# Altium footprint library PASSIVE_THD.PCBLIB: 248 footprints (part 2 of 16)
Each footprint in its own frame and in the unit in brackets; x right, y up, seen from the top. Pads: shape width x height; smd on the part's side, far side on the other; paste and mask are expansions set on the pad; w line width, h text height; cw(c..) or ccw(c..) is an arc to the next point about the centre after c.
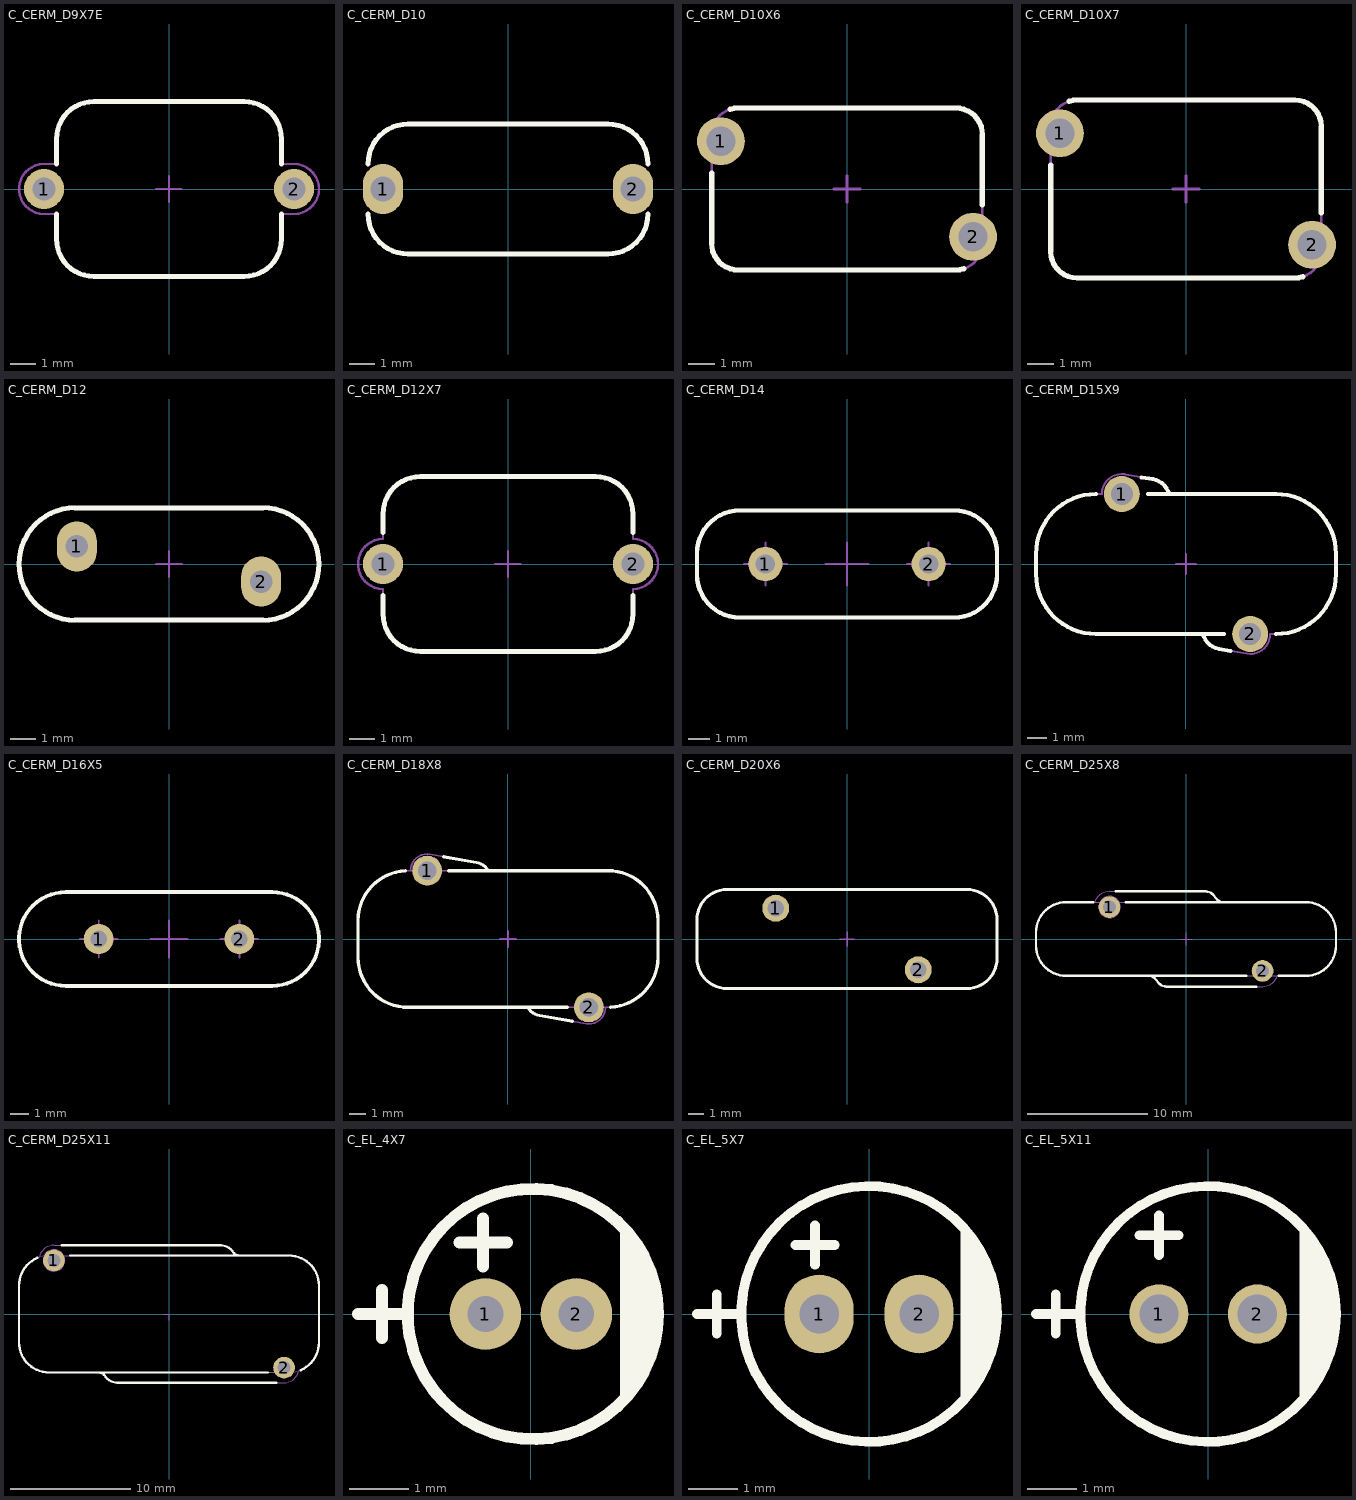
[diagram p1: the footprints below, top view; thin cyan lines are the x and y axes]

## C_CERM_D9X7E [mm] "CAP, CER, High Voltage MultiLayer"
height 12
pads (2):
  round 1.6 hole 0.9: 1(-5,0) 2(5,0)
TopOverlay:
  lines w0.2: -4.5,-1 -4.5,-2 ccw(c-3,-2) -3,-3.5 3,-3.5 ccw(c3,-2) 4.5,-2 4.5,-1 ; -4.5,1 -4.5,2 cw(c-3,2) -3,3.5 3,3.5 cw(c3,2) 4.5,2 4.5,1
Mechanical8:
  lines w0.1: -5.5,0 -5,0 ; -5,-0.5 -5,0 ; -5,0.5 -5,0 ; -4.5,0 -5,0 ; -0.5,0 0,0 ; 0,-0.5 0,0 ; 0,0.5 0,0 ; 0.5,0 0,0 ; 4.5,0 5,0 ; 5,-0.5 5,0 ; 5,0.5 5,0 ; 5.5,0 5,0
Mechanical14:
  lines w0.1: -5,-1 cw(c-5,0) -5,1 -4.5,1 -4.5,2 cw(c-3,2) -3,3.5 3,3.5 cw(c3,2) 4.5,2 4.5,1 5,1 cw(c5,0) 5,-1 4.5,-1 4.5,-2 cw(c3,-2) 3,-3.5 -3,-3.5 cw(c-3,-2) -4.5,-2 -4.5,-1 -5,-1
3D body "CAPRB_MURATA_DECB33J101KC4B.stp": height 12, standoff -3.6, extent -6,-3.5 6,3.5

## C_CERM_D10 [mm] "CAP, CER MULTILAYER, 12X4mm, pitch: 7.5mm"
height 5.5
pads (2):
  oval 1.6x2 hole 1: 1(-5,0) 2(5,0)
TopOverlay:
  lines w0.2: -5.6,-1 ccw(c-4,-1) -4,-2.6 4,-2.6 ccw(c4,-1) 5.6,-1 ; -5.6,1 cw(c-4,1) -4,2.6 4,2.6 cw(c4,1) 5.6,1
3D body "User Library-capacitor 10mm pitch.step": height 12.5, standoff -4, extent -5.5,-2.5 5.5,2.5

## C_CERM_D10X6 [mm] "CAP, CER, High Voltage MultiLayer"
height 10.2
pads (2):
  round 1.8 hole 1.1: 1(-4.75,1.8) 2(4.75,-1.8)
TopOverlay:
  lines w0.2: -5.1,0.6 -5.1,-2.05 ccw(c-4.1,-2.05) -4.1,-3.05 4.1,-3.05 ccw(c4.1,-2.05) 4.406,-3.002 ; -4.406,3.002 cw(c-4.1,2.05) -4.1,3.05 4.1,3.05 cw(c4.1,2.05) 5.1,2.05 5.1,-0.6
Mechanical8:
  lines w0.1: -5.25,1.8 -4.75,1.8 ; -4.75,1.3 -4.75,1.8 ; -4.75,2.3 -4.75,1.8 ; -4.25,1.8 -4.75,1.8 ; -0.5,0 0,0 ; 0,-0.5 0,0 ; 0,0.5 0,0 ; 0.5,0 0,0 ; 4.25,-1.8 4.75,-1.8 ; 4.75,-2.3 4.75,-1.8 ; 4.75,-1.3 4.75,-1.8 ; 5.25,-1.8 4.75,-1.8
Mechanical14:
  lines w0.1: -5.1,-2.05 ccw(c-4.1,-2.05) -4.1,-3.05 4.1,-3.05 ccw(c4.1,-2.05) 5.1,-2.05 5.1,2.05 ccw(c4.1,2.05) 4.1,3.05 -4.1,3.05 ccw(c-4.1,2.05) -5.1,2.05 -5.1,-2.05
3D body "CAPRB_VISHAY_564R60GAT56.stp": height 10.2, standoff -3.6, extent -5.159,-3.107 5.159,3.106

## C_CERM_D10X7 [mm] "CAP, CER, High Voltage MultiLayer"
height 10.2
pads (2):
  round 1.8 hole 1.1: 1(-4.75,2.1) 2(4.75,-2.1)
TopOverlay:
  lines w0.2: -5.1,0.9 -5.1,-2.35 ccw(c-4.1,-2.35) -4.1,-3.35 4.1,-3.35 ccw(c4.1,-2.35) 4.406,-3.302 ; -4.406,3.302 cw(c-4.1,2.35) -4.1,3.35 4.1,3.35 cw(c4.1,2.35) 5.1,2.35 5.1,-0.9
Mechanical8:
  lines w0.1: -5.25,2.1 -4.75,2.1 ; -4.75,1.6 -4.75,2.1 ; -4.75,2.6 -4.75,2.1 ; -4.25,2.1 -4.75,2.1 ; -0.5,0 0,0 ; 0,-0.5 0,0 ; 0,0.5 0,0 ; 0.5,0 0,0 ; 4.25,-2.1 4.75,-2.1 ; 4.75,-2.6 4.75,-2.1 ; 4.75,-1.6 4.75,-2.1 ; 5.25,-2.1 4.75,-2.1
Mechanical14:
  lines w0.1: -5.1,-2.35 ccw(c-4.1,-2.35) -4.1,-3.35 4.1,-3.35 ccw(c4.1,-2.35) 5.1,-2.35 5.1,2.35 ccw(c4.1,2.35) 4.1,3.35 -4.1,3.35 ccw(c-4.1,2.35) -5.1,2.35 -5.1,-2.35
3D body "CAPRB_VISHAY_564R60GAT22.stp": height 10.2, standoff -3.6, extent -5.159,-3.406 5.159,3.406

## C_CERM_D12 [mm] "CAP, CER, High Voltage MultiLayer"
height 15
pads (2):
  oval 1.6x2 hole 0.9: 1(-3.684,0.7) 2(3.684,-0.7)
TopOverlay:
  lines w0.2: -6,0 cw(c-3.75,0) -3.75,2.25 3.75,2.25 cw(c3.75,0) 6,0 cw(c3.75,0) 3.75,-2.25 -3.75,-2.25 cw(c-3.75,0) -6,0
Mechanical8:
  lines w0.1: -4.184,0.7 -3.684,0.7 ; -3.684,0.2 -3.684,0.7 ; -3.684,1.2 -3.684,0.7 ; -3.184,0.7 -3.684,0.7 ; -0.5,0 0,0 ; 0,-0.5 0,0 ; 0,0.5 0,0 ; 0.5,0 0,0 ; 3.184,-0.7 3.684,-0.7 ; 3.684,-1.2 3.684,-0.7 ; 3.684,-0.2 3.684,-0.7 ; 4.184,-0.7 3.684,-0.7
Mechanical14:
  lines w0.1: -6,0 cw(c-3.75,0) -3.75,2.25 3.75,2.25 cw(c3.75,0) 6,0 cw(c3.75,0) 3.75,-2.25 -3.75,-2.25 cw(c-3.75,0) -6,0
3D body "CAPRB_VISHAY_WYO472.stp": height 14.98, standoff -3.8, extent -5.984,-2.25 5.943,2.25

## C_CERM_D12X7 [mm] "CAP, CER, High Voltage MultiLayer"
height 12
pads (2):
  round 1.6 hole 0.9: 1(-5,0) 2(5,0)
TopOverlay:
  lines w0.2: -5,-1.27 -5,-2 ccw(c-3.5,-2) -3.5,-3.5 3.5,-3.5 ccw(c3.5,-2) 5,-2 5,-1.27 ; -5,1.27 -5,2 cw(c-3.5,2) -3.5,3.5 3.5,3.5 cw(c3.5,2) 5,2 5,1.27
Mechanical8:
  lines w0.1: -5.5,0 -5,0 ; -5,-0.5 -5,0 ; -5,0.5 -5,0 ; -4.5,0 -5,0 ; -0.5,0 0,0 ; 0,-0.5 0,0 ; 0,0.5 0,0 ; 0.5,0 0,0 ; 4.5,0 5,0 ; 5,-0.5 5,0 ; 5,0.5 5,0 ; 5.5,0 5,0
Mechanical14:
  lines w0.1: -5,-2 ccw(c-3.5,-2) -3.5,-3.5 3.5,-3.5 ccw(c3.5,-2) 5,-2 5,-1 ccw(c5,0) 5,1 5,2 ccw(c3.5,2) 3.5,3.5 -3.5,3.5 ccw(c-3.5,2) -5,2 -5,1 ccw(c-5,0) -5,-1 -5,-2
3D body "CAPRB_MURATA_DECB33J471KC4B.stp": height 13, standoff -3.6, extent -6,-3.5 6,3.5

## C_CERM_D14 [mm] "CAP, CER, High Voltage MultiLayer"
height 17
pads (2):
  round 1.6 hole 0.9: 1(-3.81,0) 2(3.81,0)
TopOverlay:
  lines w0.2: -7,-0.5 ccw(c-5,-0.5) -5,-2.5 5,-2.5 ccw(c5,-0.5) 7,-0.5 7,0.5 ccw(c5,0.5) 5,2.5 -5,2.5 ccw(c-5,0.5) -7,0.5 -7,-0.5
Mechanical8:
  lines w0.1: -4.81,0 -3.81,0 ; -3.81,-1 -3.81,0 ; -3.81,1 -3.81,0 ; -2.81,0 -3.81,0 ; -1,0 0,0 ; 0,-1 0,0 ; 0,1 0,0 ; 1,0 0,0 ; 2.81,0 3.81,0 ; 3.81,-1 3.81,0 ; 3.81,1 3.81,0 ; 4.81,0 3.81,0
Mechanical14:
  lines w0.1: -7,-0.5 ccw(c-5,-0.5) -5,-2.5 5,-2.5 ccw(c5,-0.5) 7,-0.5 7,0.5 ccw(c5,0.5) 5,2.5 -5,2.5 ccw(c-5,0.5) -7,0.5 -7,-0.5
3D body "CAPRB_MURATA_DE2F3KY103MA3BM02.stp": height 17.01, standoff -3.6, extent -7.001,-2.6 7.014,2.6

## C_CERM_D15X9 [mm] "CAP, CER, High Voltage MultiLayer"
height 20
pads (2):
  round 1.8 hole 1.1: 1(-3.211,3.5) 2(3.211,-3.5)
TopOverlay:
  lines w0.2: -4.511,3.5 ccw(c-4.5,0.5) -7.5,0.5 -7.5,-0.5 ccw(c-4.5,-0.5) -4.5,-3.5 1.911,-3.5 ; -2.214,4.334 -1.645,4.239 ; -1.911,3.5 4.5,3.5 cw(c4.5,0.5) 7.5,0.5 7.5,-0.5 cw(c4.5,-0.5) 4.511,-3.5 ; -1.664,4.242 cw(c-1.819,3.254) -0.849,3.5 ; 0.849,-3.5 ccw(c1.819,-3.254) 1.645,-4.239 2.22,-4.341
Mechanical8:
  lines w0.1: -3.711,3.5 -3.211,3.5 ; -3.211,3 -3.211,3.5 ; -3.211,4 -3.211,3.5 ; -2.711,3.5 -3.211,3.5 ; -0.5,0 0,0 ; 0,-0.5 0,0 ; 0,0.5 0,0 ; 0.5,0 0,0 ; 2.711,-3.5 3.211,-3.5 ; 3.211,-4 3.211,-3.5 ; 3.211,-3 3.211,-3.5 ; 3.711,-3.5 3.211,-3.5
Mechanical14:
  lines w0.1: -3.211,4.5 -1.645,4.239 ; -2.887,4.446 ccw(c-3.211,3.5) -4.211,3.5 -4.5,3.5 ccw(c-4.5,0.5) -7.5,0.5 -7.5,-0.5 ccw(c-4.5,-0.5) -4.5,-3.5 0.849,-3.5 ccw(c1.819,-3.254) 1.645,-4.239 3.038,-4.485 ccw(c3.211,-3.5) 4.211,-3.5 4.5,-3.5 ccw(c4.5,-0.5) 7.5,-0.5 7.5,0.5 ccw(c4.5,0.5) 4.5,3.5 -0.849,3.5 ccw(c-1.819,3.254) -1.664,4.242
3D body "CAPRB_MURATA_DHRE4AD222Z4QB.stp": height 19, standoff -3.6, extent -7.5,-4.5 7.5,4.5

## C_CERM_D16X5 [mm] "CAP, CER, High Voltage MultiLayer"
height 19
pads (2):
  round 1.6 hole 0.9: 1(-3.75,0) 2(3.75,0)
TopOverlay:
  lines w0.2: -5.5,-2.5 cw(c-5.5,0) -5.5,2.5 5.5,2.5 cw(c5.5,0) 5.5,-2.5 -5.5,-2.5
Mechanical8:
  lines w0.1: -4.75,0 -3.75,0 ; -3.75,-1 -3.75,0 ; -3.75,1 -3.75,0 ; -2.75,0 -3.75,0 ; -1,0 0,0 ; 0,-1 0,0 ; 0,1 0,0 ; 1,0 0,0 ; 2.75,0 3.75,0 ; 3.75,-1 3.75,0 ; 3.75,1 3.75,0 ; 4.75,0 3.75,0
Mechanical14:
  lines w0.1: -5.5,-2.5 cw(c-5.5,0) -5.5,2.5 5.5,2.5 cw(c5.5,0) 5.5,-2.5 -5.5,-2.5
3D body "CAPRB_MURATA_DEBE33D103ZA3B.stp": height 18.97, standoff -3.8, extent -7.924,-2.5 7.988,2.5

## C_CERM_D18X8 [mm] "CAP, CER, High Voltage MultiLayer"
height 22
pads (2):
  round 1.8 hole 1.1: 1(-4.849,4.1) 2(4.849,-4.1)
TopOverlay:
  lines w0.2: -6.149,4.096 ccw(c-6,1.1) -9,1.1 -9,-1.1 ccw(c-6,-1.1) -6,-4.1 3.549,-4.1 ; -3.857,4.941 -1.89,4.594 cw(c-2.063,3.609) -1.192,4.1 ; -3.549,4.1 6,4.1 cw(c6,1.1) 9,1.1 9,-1.1 cw(c6,-1.1) 6.149,-4.096 ; 1.192,-4.1 ccw(c2.064,-3.609) 1.89,-4.594 3.857,-4.941
Mechanical8:
  lines w0.1: -5.349,4.1 -4.849,4.1 ; -4.849,3.6 -4.849,4.1 ; -4.849,4.6 -4.849,4.1 ; -4.349,4.1 -4.849,4.1 ; -0.5,0 0,0 ; 0,-0.5 0,0 ; 0,0.5 0,0 ; 0.5,0 0,0 ; 4.349,-4.1 4.849,-4.1 ; 4.849,-4.6 4.849,-4.1 ; 4.849,-3.6 4.849,-4.1 ; 5.349,-4.1 4.849,-4.1
Mechanical14:
  lines w0.1: -5.849,4.1 cw(c-4.849,4.1) -4.675,5.085 -1.89,4.594 cw(c-2.064,3.609) -1.192,4.1 ; 1.192,-4.1 ccw(c2.064,-3.609) 1.89,-4.594 4.675,-5.085 ccw(c4.849,-4.1) 5.849,-4.1 ; -9,-1.1 ccw(c-6,-1.1) -6,-4.1 6,-4.1 ccw(c6,-1.1) 9,-1.1 9,1.1 ccw(c6,1.1) 6,4.1 -6,4.1 ccw(c-6,1.1) -9,1.1 -9,-1.1
3D body "CAPRB_MURATA_DHR4E4C102K2FB.stp": height 22, standoff -3.6, extent -9,-5.1 9,5.1

## C_CERM_D20X6 [mm] "CAP, CER, High Voltage MultiLayer"
height 20
pads (2):
  round 1.8 hole 1.1: 1(-4.75,2.05) 2(4.75,-2.05)
TopOverlay:
  lines w0.2: -10,-1.3 ccw(c-8,-1.3) -8,-3.3 8,-3.3 ccw(c8,-1.3) 10,-1.3 10,1.3 ccw(c8,1.3) 8,3.3 -8,3.3 ccw(c-8,1.3) -10,1.3 -10,-1.3
Mechanical8:
  lines w0.1: -5.25,2.05 -4.75,2.05 ; -4.75,1.55 -4.75,2.05 ; -4.75,2.55 -4.75,2.05 ; -4.25,2.05 -4.75,2.05 ; -0.5,0 0,0 ; 0,-0.5 0,0 ; 0,0.5 0,0 ; 0.5,0 0,0 ; 4.25,-2.05 4.75,-2.05 ; 4.75,-2.55 4.75,-2.05 ; 4.75,-1.55 4.75,-2.05 ; 5.25,-2.05 4.75,-2.05
Mechanical14:
  lines w0.1: -10,-1.3 ccw(c-8,-1.3) -8,-3.3 8,-3.3 ccw(c8,-1.3) 10,-1.3 10,1.3 ccw(c8,1.3) 8,3.3 -8,3.3 ccw(c-8,1.3) -10,1.3 -10,-1.3
3D body "CAPRB_VISHAY_564R60GAD47.stp": height 20, standoff -3.6, extent -9.999,-3.296 9.999,3.296

## C_CERM_D25X8 [mm] "CAP, CER, High Voltage MultiLayer"
height 29.4
pads (2):
  round 1.8 hole 1.1: 1(-6.35,2.65) 2(6.35,-2.65)
TopOverlay:
  lines w0.2: -7.69,3.055 -9.95,3.055 ccw(c-9.95,0.555) -12.45,0.555 -12.45,-0.555 ccw(c-9.95,-0.555) -9.95,-3.055 5.01,-3.055 ; -5.83,3.95 1.638,3.95 cw(c1.638,3.15) 2.248,3.667 2.528,3.338 ccw(c3.138,3.855) 3.138,3.055 ; -5.01,3.055 9.95,3.055 cw(c9.95,0.555) 12.45,0.555 12.45,-0.555 cw(c9.95,-0.555) 9.95,-3.055 7.69,-3.055 ; -3.138,-3.055 cw(c-3.138,-3.855) -2.528,-3.338 -2.248,-3.667 ccw(c-1.638,-3.15) -1.638,-3.95 5.83,-3.95
Mechanical8:
  circle w0.05: c-6.35,2.65 r0.9
  circle w0.05: c-6.35,2.65 r0.55
  lines w0.05: -6.85,2.65 -6.35,2.65 ; -6.35,2.15 -6.35,2.65 ; -6.35,3.15 -6.35,2.65 ; -5.85,2.65 -6.35,2.65 ; -0.5,0 0,0 ; 0,-0.5 0,0 ; 0,0.5 0,0 ; 0.5,0 0,0 ; 5.85,-2.65 6.35,-2.65 ; 6.35,-3.15 6.35,-2.65 ; 6.35,-2.15 6.35,-2.65 ; 6.85,-2.65 6.35,-2.65
Mechanical14:
  lines w0.1: -7.585,3.055 cw(c-6.35,2.65) -6.35,3.95 1.638,3.95 cw(c1.638,3.15) 2.248,3.667 2.528,3.338 ccw(c3.138,3.855) 3.138,3.055 ; -3.138,-3.055 cw(c-3.138,-3.855) -2.528,-3.338 -2.248,-3.667 ccw(c-1.638,-3.15) -1.638,-3.95 6.35,-3.95 ccw(c6.35,-2.65) 7.585,-3.055 ; -12.45,-0.555 ccw(c-9.95,-0.555) -9.95,-3.055 9.95,-3.055 ccw(c9.95,-0.555) 12.45,-0.555 12.45,0.555 ccw(c9.95,0.555) 9.95,3.055 -9.95,3.055 ccw(c-9.95,0.555) -12.45,0.555 -12.45,-0.555
3D body "CAPRB_VISHAY_615RX7RAM103EN202M.stp": height 29.4, standoff -3.9, extent -12.45,-3.95 12.45,3.95

## C_CERM_D25X11 [mm] "CAP, CER, High Voltage MultiLayer"
height 29.7
pads (2):
  round 1.8 hole 1.1: 1(-9.55,4.45) 2(9.55,-4.45)
TopOverlay:
  lines w0.2: -10.935,4.653 ccw(c-9.95,2.355) -12.45,2.355 -12.45,-2.355 ccw(c-9.95,-2.355) -9.95,-4.855 8.21,-4.855 ; -8.919,5.7 4.282,5.7 cw(c4.282,4.45) 5.352,5.096 ccw(c5.78,5.355) 5.78,4.855 ; -8.21,4.855 9.95,4.855 cw(c9.95,2.355) 12.45,2.355 12.45,-2.355 cw(c9.95,-2.355) 10.935,-4.653 ; -5.78,-4.855 cw(c-5.78,-5.355) -5.352,-5.096 ccw(c-4.282,-4.45) -4.282,-5.7 8.919,-5.7
Mechanical8:
  circle w0.05: c-9.55,4.45 r0.9
  circle w0.05: c-9.55,4.45 r0.55
  lines w0.05: -10.05,4.45 -9.55,4.45 -9.55,3.95 ; -0.5,0 0,0 0,-0.5 ; 9.05,-4.45 9.55,-4.45 9.55,-4.95
Mechanical14:
  circle w0.1: c9.55,-4.45 r0.405
  circle w0.1: c-9.55,4.45 r0.405
  lines w0.1: -10.771,4.716 cw(c-9.55,4.45) -9.55,5.7 4.282,5.7 cw(c4.282,4.45) 5.352,5.096 ccw(c5.78,5.355) 5.78,4.855 ; -5.78,-4.855 cw(c-5.78,-5.355) -5.352,-5.096 ccw(c-4.282,-4.45) -4.282,-5.7 9.55,-5.7 ccw(c9.55,-4.45) 10.771,-4.716 ; -12.45,-2.355 ccw(c-9.95,-2.355) -9.95,-4.855 9.95,-4.855 ccw(c9.95,-2.355) 12.45,-2.355 12.45,2.355 ccw(c9.95,2.355) 9.95,4.855 -9.95,4.855 ccw(c-9.95,2.355) -12.45,2.355 -12.45,-2.355
3D body "CAPRB_VISHAY_615R150GAD25.stp": height 29.7, standoff -3.9, extent -12.446,-5.7 12.446,5.7

## C_EL_4X7 [mm] "Capacitor Electrolythic, D4.0X7.0H pitch: 1.5mm"
height 7
pads (2):
  round 1.2 hole 0.6: 1(-0.762,0) 2(0.762,0)
TopOverlay:
  circle w0.2: c0.032,0 r2.1
  region: 1.5,1.5 1.518,1.482 1.664,1.336 1.894,0.993 2.051,0.611 2.132,0.206 2.132,0 2.132,-0.206 2.051,-0.611 1.894,-0.993 1.664,-1.336 1.518,-1.482 1.5,-1.5
  lines w0.2: -2.9,0 -2.1,0 ; -2.5,-0.4 -2.5,0.4 ; -1.2,1.2 -0.4,1.2 ; -0.8,0.8 -0.8,1.6
3D body "User Library-Cap electrolitic radial 4x7.STEP": height -0.5, standoff -9, extent -1.993,-1.994 1.999,1.992

## C_EL_5X7 [mm] "Capacitor Electrolythic, D5.0X7.0H pitch: 2mm"
pads (2):
  oval 1.4x1.6 hole 0.8: 1(-1.016,0) 2(1.016,0)
TopOverlay:
  circle w0.2: c0,0 r2.6
  region: 1.865,-1.764 1.865,1.764 2.039,1.59 2.312,1.182 2.5,0.728 2.596,0.246 2.596,0 2.596,-0.246 2.5,-0.728 2.312,-1.182 2.039,-1.59
  lines w0.2: -3.5,0 -2.7,0 ; -3.1,-0.4 -3.1,0.4 ; -1.5,1.4 -0.7,1.4 ; -1.1,1 -1.1,1.8
3D body "User Library-Cap electro 5x7x2mm.step": height 7.33, standoff -3.47, extent -2.525,-2.525 2.526,2.526

## C_EL_5X11 [mm] "Capacitor Electrolythic, D5.0X11.0H pitch: 2mm"
height 11
pads (2):
  round 1.2 / inner round 1.2 / far side oval 1.2x2 hole 0.8: 1(-1,0) 2(1,0)
TopOverlay:
  circle w0.2: c0,0 r2.6
  region: 1.865,-1.764 1.865,1.764 2.039,1.59 2.312,1.182 2.5,0.728 2.596,0.246 2.596,0 2.596,-0.246 2.5,-0.728 2.312,-1.182 2.039,-1.59
  lines w0.2: -3.5,0 -2.7,0 ; -3.1,-0.4 -3.1,0.4 ; -1.4,1.6 -0.6,1.6 ; -1,1.2 -1,2
3D body "User Library-Cap electro 5x11x2mm.step": height 2.67, standoff -12.13, extent -2.525,-2.525 2.525,2.525